# EAGLE library part TPS2541 (library charge_controller)
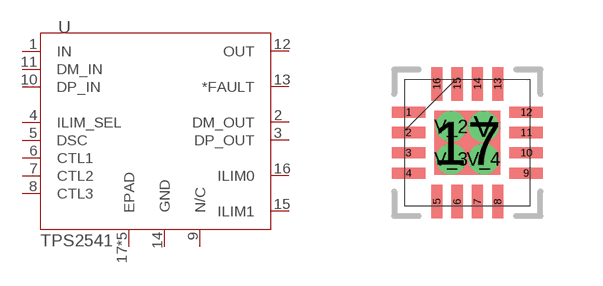
[diagram p0: symbol with the pads of RTE16_1P66X1P66; footprint RTE16_1P66X1P66]

Designator prefix U

## TPS2541 (DIGI: 296-27901-1-ND)  [RTE16_1P66X1P66]
1  IN  pas
2  DM_OUT  pas
3  DP_OUT  pas
4  ILIM_SEL  pas
5  DSC  pas
6  CTL1  pas
7  CTL2  pas
8  CTL3  pas
9  N/C  pas
10  DP_IN  pas
11  DM_IN  pas
12  OUT  pas
13  *FAULT  pas
14  GND  pas
15  ILIM1  pas
16  ILIM0  pas
17  EPAD  pas
V  EPAD  pas
V_2  EPAD  pas
V_3  EPAD  pas
V_4  EPAD  pas

## Footprint RTE16_1P66X1P66 (pad centres in mm)
smd 0.838 x 0.279: 1 -1.473,0.762; 2 -1.473,0.254; 3 -1.473,-0.254; 4 -1.473,-0.762; 9 1.473,-0.762; 10 1.473,-0.254; 11 1.473,0.254; 12 1.473,0.762
smd 0.279 x 0.838: 5 -0.762,-1.473; 6 -0.254,-1.473; 7 0.254,-1.473; 8 0.762,-1.473; 13 0.762,1.473; 14 0.254,1.473; 15 -0.254,1.473; 16 -0.762,1.473
smd 1.651 x 1.6: 17 0,0
drill 0.254: V 0.406,0.406; V_2 -0.406,0.406; V_3 -0.406,-0.406; V_4 0.406,-0.406